# EAGLE library part Z8*0X21 (library untitled)
Z8 Encore, 10-bit ADC, 20-pin packages ZiLOG Z8 Encore 8K Series http://www.zilog.com/ (Replace 'X' in part number with '4' or '8') Replace 'X' in any part number with '4' or '8' Z8Fxxxx are Flash-based parts Z8Rxxxx are Mask ROM parts
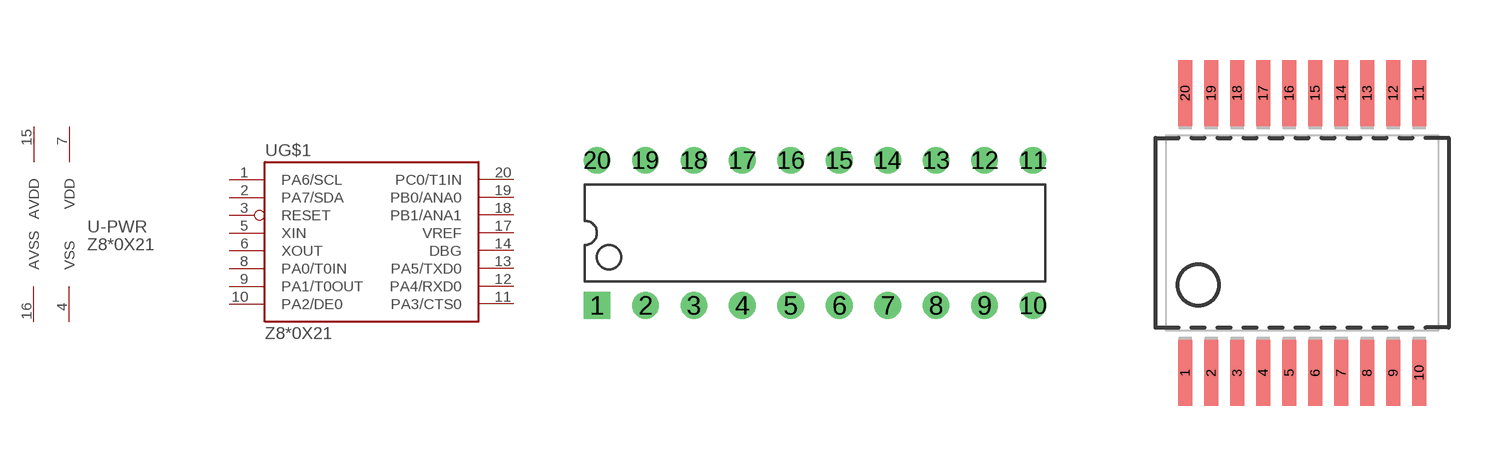
[diagram p1: symbol with the pads of PDIP-20; footprints PDIP-20, SSOP-20]

Designator prefix U; gates G$1=Z8*0X21 -PWR=PWR2A2

## Z8F0X21PH, Z8R0X21PH  [PDIP-20]
1  G$1:PA6/SCL
2  G$1:PA7/SDA
3  G$1:RESET  in
4  -PWR:VSS  pwr
5  G$1:XIN  pas
6  G$1:XOUT  pas
7  -PWR:VDD  pwr
8  G$1:PA0/T0IN
9  G$1:PA1/T0OUT
10  G$1:PA2/DE0
11  G$1:PA3/CTS0
12  G$1:PA4/RXD0
13  G$1:PA5/TXD0
14  G$1:DBG
15  -PWR:AVDD  pwr
16  -PWR:AVSS  pwr
17  G$1:VREF  pas
18  G$1:PB1/ANA1
19  G$1:PB0/ANA0
20  G$1:PC0/T1IN

## Z8F0X21HH, Z8R0X21HH  [SSOP-20]
Pads as for PDIP-20

## Footprint PDIP-20 (pad centres in mm)
20-pin PDIP (Plastic Dual Inline Package)
drill 0.813 pad 1.397 square: 1 0,0
drill 0.813 pad 1.397 round: 2 2.54,0; 3 5.08,0; 4 7.62,0; 5 10.16,0; 6 12.7,0; 7 15.24,0; 8 17.78,0; 9 20.32,0; 10 22.86,0; 11 22.86,7.62; 12 20.32,7.62; 13 17.78,7.62; 14 15.24,7.62; 15 12.7,7.62; 16 10.16,7.62; 17 7.62,7.62; 18 5.08,7.62; 19 2.54,7.62; 20 0,7.62

## Footprint SSOP-20 (pad centres in mm)
20-pin SSOP (Small Shrink Outline Package)
smd 0.35 x 1.65: 1 -2.925,-3.5; 2 -2.275,-3.5; 3 -1.625,-3.5; 4 -0.975,-3.5; 5 -0.325,-3.5; 6 0.325,-3.5; 7 0.975,-3.5; 8 1.625,-3.5; 9 2.275,-3.5; 10 2.925,-3.5; 11 2.925,3.5; 12 2.275,3.5; 13 1.625,3.5; 14 0.975,3.5; 15 0.325,3.5; 16 -0.325,3.5; 17 -0.975,3.5; 18 -1.625,3.5; 19 -2.275,3.5; 20 -2.925,3.5